# EAGLE library part SFW10R-1STE1LF (library FCI_By_element14_Batch_1)
FFC/FPC CONNECTOR, RECEPTACLE 10POS 1ROW
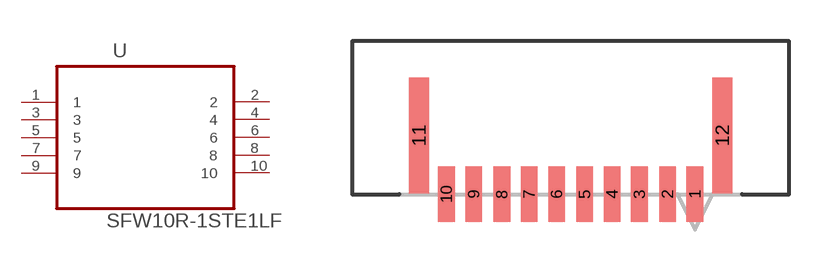
[diagram p58: symbol with the pads of FCI_SFW10R-1STE1LF; footprint FCI_SFW10R-1STE1LF]

Designator prefix U

## SFW10R-1STE1LF (MPN: SFW10R-1STE1LF; OC_FARNELL: 1632207; OC_NEWARK: 62K5594; PACKAGE: CONNECTOR - 10POS; SUPPLIER: FCI)  [FCI_SFW10R-1STE1LF]
1  1  pas
2  2  pas
3  3  pas
4  4  pas
5  5  pas
6  6  pas
7  7  pas
8  8  pas
9  9  pas
10  10  pas

## Footprint FCI_SFW10R-1STE1LF (pad centres in mm)
smd 0.61 x 2.007: 1 4.496,2.743; 2 3.505,2.743; 3 2.489,2.743; 4 1.499,2.743; 5 0.508,2.743; 6 -0.508,2.743; 7 -1.499,2.743; 8 -2.489,2.743; 9 -3.505,2.743; 10 -4.496,2.743
smd 0.711 x 4.191: 11 -5.486,4.877; 12 5.486,4.877